# Altium footprint library Fedor's_pcb.PcbLib: 174 footprints (part 8 of 14)
Each footprint in its own frame and in the unit in brackets; x right, y up, seen from the top. Pads: shape width x height; smd on the part's side, far side on the other; paste and mask are expansions set on the pad; w line width, h text height; cw(c..) or ccw(c..) is an arc to the next point about the centre after c.
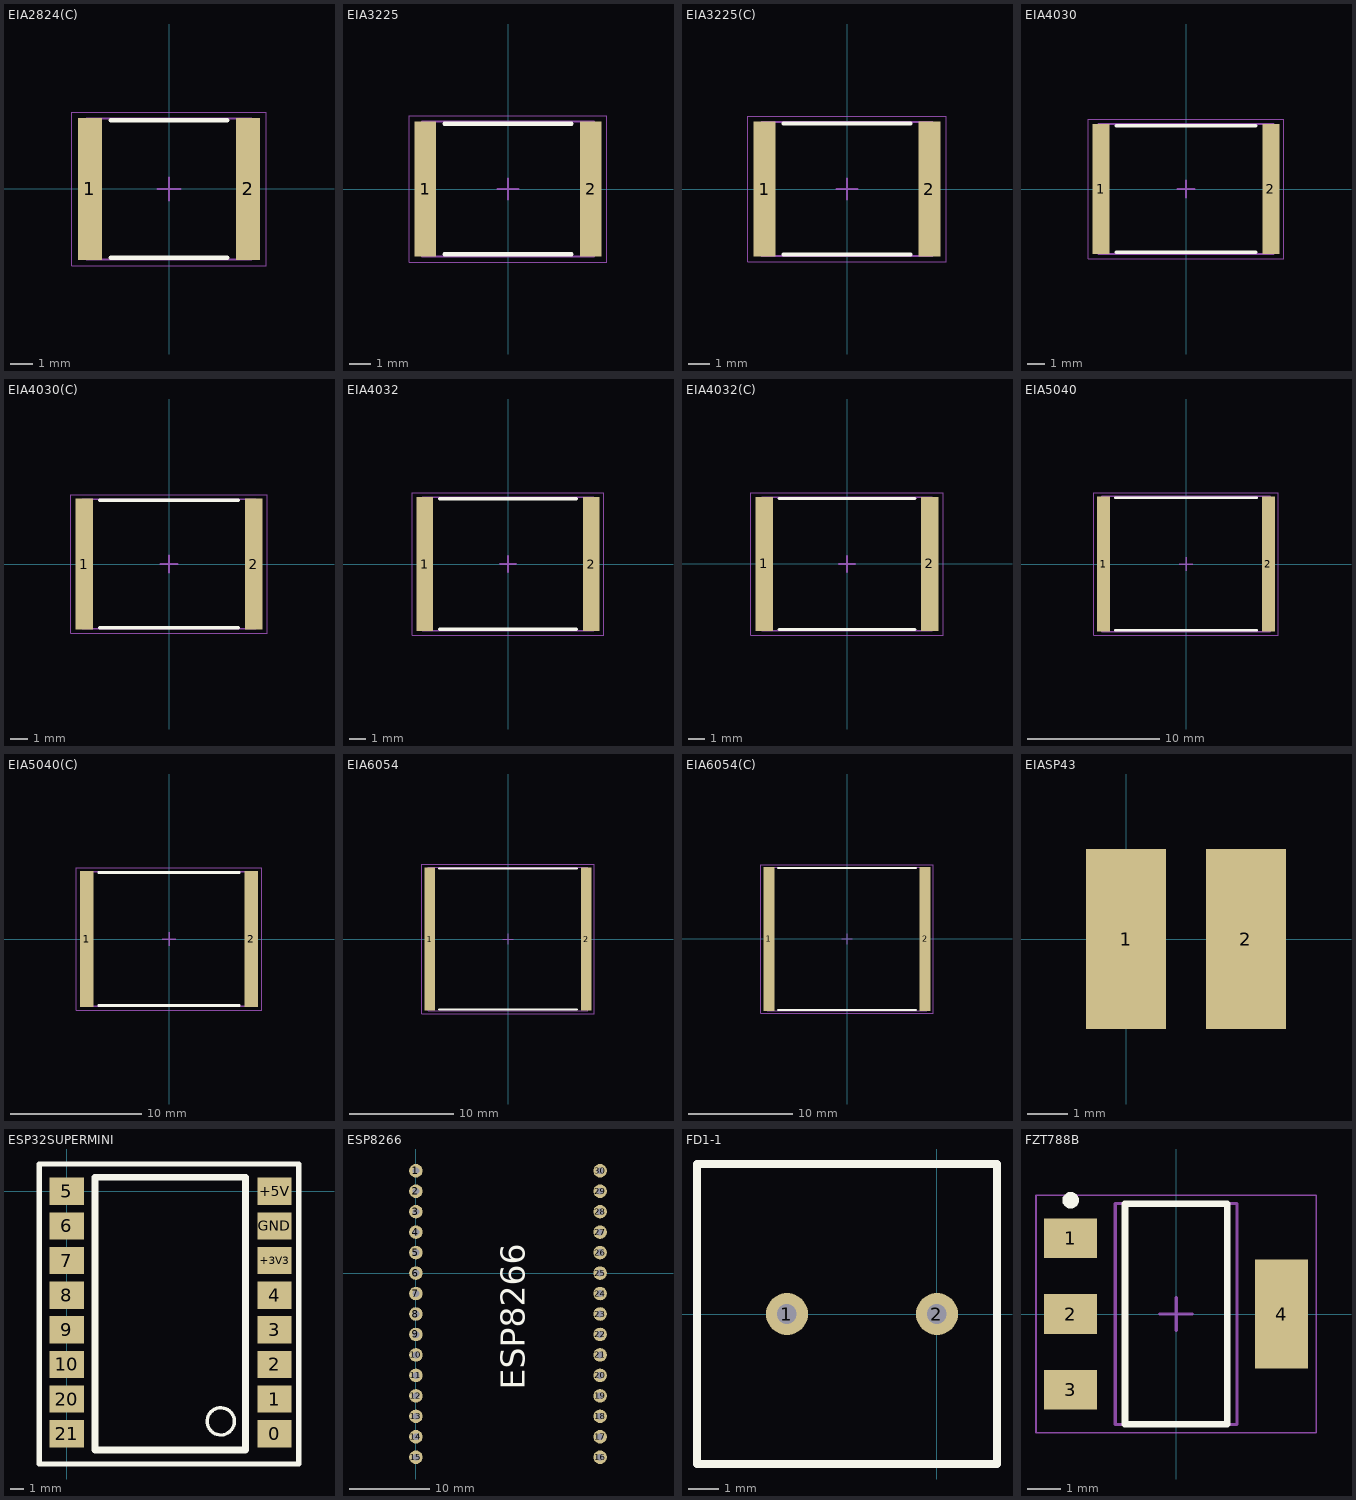
[diagram p7: the footprints below, top view; thin cyan lines are the x and y axes]

## EIA2824(C) [mm] "Chip Capacitor, 2-Leads, Body 7,10x6,10mm, IPC Medium Density"
height 3.95
pads (2):
  rect 1.05x6.2 smd: 1(-3.45,0) 2(3.45,0)
Top Overlay:
  lines w0.2: -2.55,-3 2.55,-3 ; -2.55,3 2.55,3
Mechanical 13:
  lines w0.1: -3.6,-3.075 -3.6,3.075 3.6,3.075 3.6,-3.075 -3.6,-3.075
Mechanical 15:
  lines w0.05: -4.25,-3.35 -4.25,3.35 4.25,3.35 4.25,-3.35 -4.25,-3.35
  lines w0.1: -0.5,0 0.5,0 ; 0,-0.5 0,0.5
3D body "CAPC7161X40N.step": height 3.95, standoff 0, extent -3.6,-3.075 3.6,3.075

## EIA3225 [mm] "Chip Resistor, 2-Leads, Body 8,00x6,30mm, IPC Medium Density"
height 3.25
pads (2):
  rect 1x6.35 smd: 1(-3.9,0) 2(3.9,0)
Top Overlay:
  lines w0.2: -3,-3.075 3,-3.075 ; -3,3.075 3,3.075
Mechanical 13:
  lines w0.1: -4.05,-3.175 -4.05,3.175 4.05,3.175 4.05,-3.175 -4.05,-3.175
Mechanical 15:
  lines w0.05: -4.65,-3.45 -4.65,3.45 4.65,3.45 4.65,-3.45 -4.65,-3.45
  lines w0.1: -0.5,0 0.5,0 ; 0,-0.5 0,0.5
3D body "RESC8063X32N.step": height 3.25, standoff 0, extent -4.05,-3.175 4.05,3.175

## EIA3225(C) [mm] "Chip Capacitor, 2-Leads, Body 8,00x6,30mm, IPC Medium Density"
height 3.25
pads (2):
  rect 1.05x6.4 smd: 1(-3.9,0) 2(3.9,0)
Top Overlay:
  lines w0.2: -3,-3.1 3,-3.1 ; -3,3.1 3,3.1
Mechanical 13:
  lines w0.1: -4.05,-3.175 -4.05,3.175 4.05,3.175 4.05,-3.175 -4.05,-3.175
Mechanical 15:
  lines w0.05: -4.7,-3.45 -4.7,3.45 4.7,3.45 4.7,-3.45 -4.7,-3.45
  lines w0.1: -0.5,0 0.5,0 ; 0,-0.5 0,0.5
3D body "CAPC8063X32N.step": height 3.25, standoff 0, extent -4.05,-3.175 4.05,3.175

## EIA4030 [mm] "Chip Resistor, 2-Leads, Body 10,20x7,60mm, IPC Medium Density"
height 3.95
pads (2):
  rect 1x7.65 smd: 1(-5,0) 2(5,0)
Top Overlay:
  lines w0.2: -4.1,-3.725 4.1,-3.725 ; -4.1,3.725 4.1,3.725
Mechanical 13:
  lines w0.1: -5.15,-3.825 -5.15,3.825 5.15,3.825 5.15,-3.825 -5.15,-3.825
Mechanical 15:
  lines w0.05: -5.75,-4.1 -5.75,4.1 5.75,4.1 5.75,-4.1 -5.75,-4.1
  lines w0.1: -0.5,0 0.5,0 ; 0,-0.5 0,0.5
3D body "RESC10276X40N.step": height 3.95, standoff 0, extent -5.15,-3.825 5.15,3.825

## EIA4030(C) [mm] "Chip Capacitor, 2-Leads, Body 10,20x7,60mm, IPC Medium Density"
height 3.95
pads (2):
  rect 1.05x7.7 smd: 1(-5,0) 2(5,0)
Top Overlay:
  lines w0.2: -4.1,-3.75 4.1,-3.75 ; -4.1,3.75 4.1,3.75
Mechanical 13:
  lines w0.1: -5.15,-3.825 -5.15,3.825 5.15,3.825 5.15,-3.825 -5.15,-3.825
Mechanical 15:
  lines w0.05: -5.8,-4.1 -5.8,4.1 5.8,4.1 5.8,-4.1 -5.8,-4.1
  lines w0.1: -0.5,0 0.5,0 ; 0,-0.5 0,0.5
3D body "CAPC10276X40N.step": height 3.95, standoff 0, extent -5.15,-3.825 5.15,3.825

## EIA4032 [mm] "Chip Resistor, 2-Leads, Body 10,20x8,00mm, IPC Medium Density"
height 3.25
pads (2):
  rect 1x8.05 smd: 1(-5,0) 2(5,0)
Top Overlay:
  lines w0.2: -4.1,-3.925 4.1,-3.925 ; -4.1,3.925 4.1,3.925
Mechanical 13:
  lines w0.1: -5.15,-4.025 -5.15,4.025 5.15,4.025 5.15,-4.025 -5.15,-4.025
Mechanical 15:
  lines w0.05: -5.75,-4.3 -5.75,4.3 5.75,4.3 5.75,-4.3 -5.75,-4.3
  lines w0.1: -0.5,0 0.5,0 ; 0,-0.5 0,0.5
3D body "RESC10280X32N.step": height 3.25, standoff 0, extent -5.15,-4.025 5.15,4.025

## EIA4032(C) [mm] "Chip Capacitor, 2-Leads, Body 10,20x8,00mm, IPC Medium Density"
height 3.25
pads (2):
  rect 1.05x8.1 smd: 1(-5,0) 2(5,0)
Top Overlay:
  lines w0.2: -4.1,-3.95 4.1,-3.95 ; -4.1,3.95 4.1,3.95
Mechanical 13:
  lines w0.1: -5.15,-4.025 -5.15,4.025 5.15,4.025 5.15,-4.025 -5.15,-4.025
Mechanical 15:
  lines w0.05: -5.8,-4.3 -5.8,4.3 5.8,4.3 5.8,-4.3 -5.8,-4.3
  lines w0.1: -0.5,0 0.5,0 ; 0,-0.5 0,0.5
3D body "CAPC10280X32N.step": height 3.25, standoff 0, extent -5.15,-4.025 5.15,4.025

## EIA5040 [mm] "Chip Resistor, 2-Leads, Body 12,70x10,20mm, IPC Medium Density"
height 4.85
pads (2):
  rect 1x10.25 smd: 1(-6.25,0) 2(6.25,0)
Top Overlay:
  lines w0.2: -5.35,-5.025 5.35,-5.025 ; -5.35,5.025 5.35,5.025
Mechanical 13:
  lines w0.1: -6.4,-5.125 -6.4,5.125 6.4,5.125 6.4,-5.125 -6.4,-5.125
Mechanical 15:
  lines w0.05: -7,-5.4 -7,5.4 7,5.4 7,-5.4 -7,-5.4
  lines w0.1: -0.5,0 0.5,0 ; 0,-0.5 0,0.5
3D body "RESC127102X48N.step": height 4.85, standoff 0, extent -6.4,-5.125 6.4,5.125

## EIA5040(C) [mm] "Chip Capacitor, 2-Leads, Body 12,70x10,20mm, IPC Medium Density"
height 4.85
pads (2):
  rect 1.05x10.3 smd: 1(-6.25,0) 2(6.25,0)
Top Overlay:
  lines w0.2: -5.35,-5.05 5.35,-5.05 ; -5.35,5.05 5.35,5.05
Mechanical 13:
  lines w0.1: -6.4,-5.125 -6.4,5.125 6.4,5.125 6.4,-5.125 -6.4,-5.125
Mechanical 15:
  lines w0.05: -7.05,-5.4 -7.05,5.4 7.05,5.4 7.05,-5.4 -7.05,-5.4
  lines w0.1: -0.5,0 0.5,0 ; 0,-0.5 0,0.5
3D body "CAPC127102X48N.step": height 4.85, standoff 0, extent -6.4,-5.125 6.4,5.125

## EIA6054 [mm] "Chip Resistor, 2-Leads, Body 15,20x13,70mm, IPC Medium Density"
height 4.85
pads (2):
  rect 1x13.75 smd: 1(-7.5,0) 2(7.5,0)
Top Overlay:
  lines w0.2: -6.6,-6.775 6.6,-6.775 ; -6.6,6.775 6.6,6.775
Mechanical 13:
  lines w0.1: -7.65,-6.875 -7.65,6.875 7.65,6.875 7.65,-6.875 -7.65,-6.875
Mechanical 15:
  lines w0.05: -8.25,-7.15 -8.25,7.15 8.25,7.15 8.25,-7.15 -8.25,-7.15
  lines w0.1: -0.5,0 0.5,0 ; 0,-0.5 0,0.5
3D body "RESC152137X48N.step": height 4.85, standoff 0, extent -7.65,-6.875 7.65,6.875

## EIA6054(C) [mm] "Chip Capacitor, 2-Leads, Body 15,20x13,70mm, IPC Medium Density"
height 4.85
pads (2):
  rect 1.05x13.8 smd: 1(-7.5,0) 2(7.5,0)
Top Overlay:
  lines w0.2: -6.6,-6.8 6.6,-6.8 ; -6.6,6.8 6.6,6.8
Mechanical 13:
  lines w0.1: -7.65,-6.875 -7.65,6.875 7.65,6.875 7.65,-6.875 -7.65,-6.875
Mechanical 15:
  lines w0.05: -8.3,-7.15 -8.3,7.15 8.3,7.15 8.3,-7.15 -8.3,-7.15
  lines w0.1: -0.5,0 0.5,0 ; 0,-0.5 0,0.5
3D body "CAPC152137X48N.step": height 4.85, standoff 0, extent -7.65,-6.875 7.65,6.875

## EIASP43 [mm]
pads (2):
  rect 2x4.5 smd paste-2539.97 mask+0.07: 1(0,0) 2(3,0)
3D body "INDP2523X23N.step": height 2.39, standoff 0, extent 0.15,-1.16 2.85,1.16

## ESP32SUPERMINI [mm]
pads (16):
  rect 2.5x2 smd mask+0.05: 0(15.24,-17.78) 1(15.24,-15.24) 2(15.24,-12.7) 3(15.24,-10.16) 4(15.24,-7.62) 5(0,0) 6(0,-2.54) 7(0,-5.08) 8(0,-7.62) 9(0,-10.16) 10(0,-12.7) 20(0,-15.24) 21(0,-17.78) +3V3(15.24,-5.08) +5V(15.24,0) GND(15.24,-2.54)
Top Overlay:
  circle w0.254: c11.293,-16.873 r1
  lines w0.4: -2,-20 -2,2 17,2 17,-20 -2,-20
  lines w0.5: 2.075,-18.971 2.075,1.029 13.112,1.029 13.112,-18.971 2.075,-18.971
3D body "esp32c3supermini.step": height 4.3, standoff 0, extent -1.1,-20.7 16.9,3.5

## ESP8266 [mm]
pads (30):
  round 1.68 hole 0.84: 1(0,12.7) 2(0,10.16) 3(0,7.62) 4(0,5.08) 5(0,2.54) 6(0,0) 7(0,-2.54) 8(0,-5.08) 9(0,-7.62) 10(0,-10.16) 11(0,-12.7) 12(0,-15.24) 13(0,-17.78) 14(0,-20.32) 15(0,-22.86) 16(22.86,-22.86) 17(22.86,-20.32) 18(22.86,-17.78) 19(22.86,-15.24) 20(22.86,-12.7) 21(22.86,-10.16) 22(22.86,-7.62) 23(22.86,-5.08) 24(22.86,-2.54) 25(22.86,0) 26(22.86,2.54) 27(22.86,5.08) 28(22.86,7.62) 29(22.86,10.16) 30(22.86,12.7)
Top Overlay:
  text "ESP8266" at 13.5,-14.5 h3

## FD1-1 [mm]
pads (2):
  round 1.4 hole 0.65: 1(-5,0) 2(0,0)
Top Overlay:
  lines w0.254: -8,-5 2,-5 2,5 -8,5 -8,-5
3D body "FD1-1.stp": height 3.9, standoff -2.6, extent -7.05,-4.55 2.05,4.55

## FZT788B [mm] "SOT223, 4-Leads, Body 6,50x7,00mm (avg), Pitch 2,30mm, IPC Medium Density"
height 1.7
pads (4):
  rect 1.6x1.2 smd: 1(-3.2,2.3) 2(-3.2,0) 3(-3.2,-2.3)
  rect 1.6x3.3 smd: 4(3.2,0)
Top Overlay:
  circle w0.25: c-3.2,3.45 r0.125
  lines w0.2: -1.55,-3.35 1.55,-3.35 1.55,3.35 -1.55,3.35 -1.55,-3.35
Mechanical 13:
  lines w0.1: -1.85,-3.35 1.85,-3.35 1.85,3.35 -1.85,3.35 -1.85,-3.35
Mechanical 15:
  lines w0.05: -4.25,-3.6 4.25,-3.6 4.25,3.6 -4.25,3.6 -4.25,-3.6
  lines w0.1: -0.5,0 0.5,0 ; 0,-0.5 0,0.5
3D body "FZT788B.step": height 1.7, standoff 0, extent -3.5,-3.35 3.5,3.35